# EAGLE library part FTDI (library Let'sMakeMyFabduino)
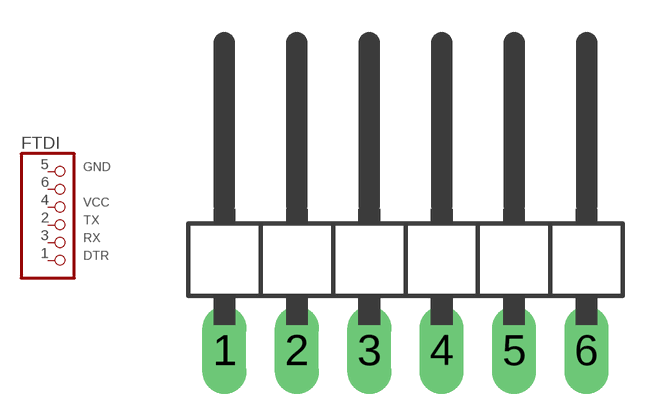
[diagram p3: symbol with the pads of PINHEADER_1_6_90; footprint PINHEADER_1_6_90]

Designator prefix -

## FTDI  [PINHEADER_1_6_90]
1  DTR  pas
2  TX  pas
3  RX  pas
4  VCC  pas
5  GND  pas
6  GND2  pas

## Footprint PINHEADER_1_6_90 (pad centres in mm)
drill 1.03 pad 1.27 long: 1 -6.35,-5.08; 2 -3.81,-5.08; 3 -1.27,-5.08; 4 1.27,-5.08; 5 3.81,-5.08; 6 6.35,-5.08